# Altium schematic symbol library VL53L0CXV0DH1.SchLib: 1 symbol
Pins are listed as number, name and electrical type; pins without a type are passive.

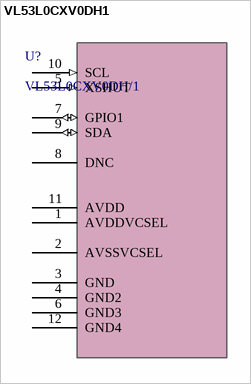
[diagram p0: symbol VL53L0CXV0DH1]

## VL53L0CXV0DH1
designator U?, comment VL53L0CXV0DH/1
Time-of-Flight (ToF) ranging sensor; Manufacturer_Name: STMicroelectronics; Copyright: Copyright (C) 2026 Ultra Librarian. All rights reserved.; Manufacturer_Part_Number: VL53L0CXV0DH/1; RefDes: RefDes; Type: Type
footprint LGA12_STM
pins: 1 AVDDVCSEL (power), 2 AVSSVCSEL (power), 3 GND (power), 4 GND2 (power), 5 XSHUT (in), 6 GND3 (power), 7 GPIO1 (io), 8 DNC, 9 SDA (io), 10 SCL (in), 11 AVDD (power), 12 GND4 (power)